# Altium schematic symbol library SCH - POWER - MODULE - TI-TPS62097-Q1.SCHLIB: 1 symbol
Pins are listed as number, name and electrical type; pins without a type are passive.

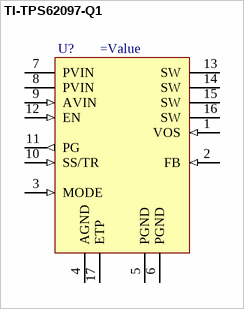
[diagram p0: symbol TI-TPS62097-Q1]

## TI-TPS62097-Q1
designator U?
2A High Efficiency Step-Down Converter in Wettable Flanks QFN Package
pins: 1 VOS (in), 2 FB (in), 3 MODE (in), 4 AGND (power) "Output power good (High = VOUT ready, Low = VOUT below nominal regulation) ; open drain (requires pull-up resistor; goes high impedance, when device is switched off)", 5 PGND (power), 6 PGND (power), 7 PVIN (power), 8 PVIN (power), 9 AVIN (in), 10 SS/TR (in), 11 PG (out), 12 EN (in), 13 SW (power), 14 SW (power), 15 SW (power), 16 SW (power), 17 ETP "The exposed thermal pad is connected to AGND. It must be soldered to achieve appropriate power dissipation and mechanical reliability."